# Altium schematic symbol library PIC16F876A.SchLib: 1 symbol
Pins are listed as number, name and electrical type; pins without a type are passive.

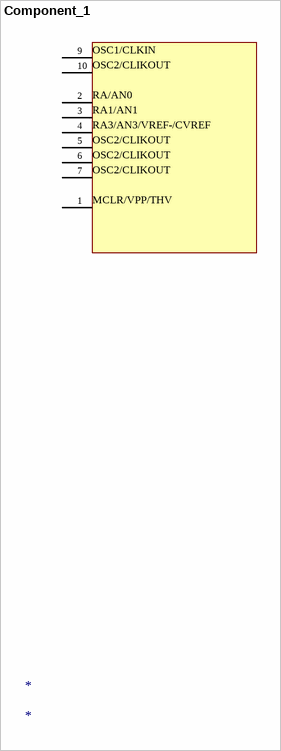
[diagram p0: symbol Component_1]

## Component_1
designator *
text: 9; OSC1/CLKIN; 10; OSC2/CLIKOUT; 2; RA/AN0; 3; RA1/AN1; 4; RA3/AN3/VREF-/CVREF; 5; 6; 7; 1; MCLR/VPP/THV